# EAGLE library part SMD-FOLIENSTECKVERBINDER-30POL (library Foliensteckverbinder - SMD 30POL)
Name des Bauteiles: -->SMD-Foliensteckverbinder-30POL Daten:30POL, RM0,5, SMD Artikelnummer:#keine feste Artikelnummer vorhanden / Atikel nicht lagermäßig vorhanden! Datenblatt:www.alldatasheet.com __________________________________________ generated by Eagle Description Tool am : 28.11.2013 08:59:44 erstellt von: fert
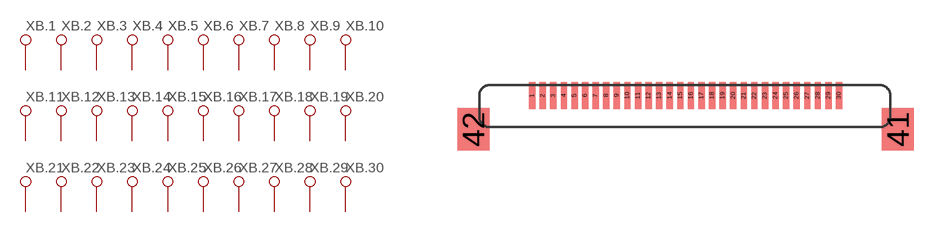
[diagram p0: symbol with the pads of SMD-FOLIENVERBINDER30POL; footprint SMD-FOLIENVERBINDER30POL]

Designator prefix XB; gates .1=1 .2=1 .3=1 .4=1 .5=1 .6=1 .7=1 .8=1 .9=1 .10=1 .11=1 .12=1 .13=1 .14=1 .15=1 .16=1 .17=1 .18=1 .19=1 .20=1 .21=1 .22=1 .23=1 .24=1 .25=1 .26=1 .27=1 .28=1 .29=1 .30=1

## SMD-FOLIENSTECKVERBINDER-30POLTHT  [SMD-FOLIENVERBINDER30POL]
1  .1:.1
2  .2:.1
3  .3:.1
4  .4:.1
5  .5:.1
6  .6:.1
7  .7:.1
8  .8:.1
9  .9:.1
10  .10:.1
11  .11:.1
12  .12:.1
13  .13:.1
14  .14:.1
15  .15:.1
16  .16:.1
17  .17:.1
18  .18:.1
19  .19:.1
20  .20:.1
21  .21:.1
22  .22:.1
23  .23:.1
24  .24:.1
25  .25:.1
26  .26:.1
27  .27:.1
28  .28:.1
29  .29:.1
30  .30:.1

## Footprint SMD-FOLIENVERBINDER30POL (pad centres in mm)
smd 0.3 x 1.27: 1 0,0; 2 0.5,0; 3 1,0; 4 1.5,0; 5 2,0; 6 2.5,0; 7 3,0; 8 3.5,0; 9 4,0; 10 4.5,0; 11 5,0; 12 5.5,0; 13 6,0; 14 6.5,0; 15 7,0; 16 7.5,0; 17 8,0; 18 8.5,0; 19 9,0; 20 9.5,0; 21 10,0; 22 10.5,0; 23 11,0; 24 11.5,0; 25 12,0; 26 12.5,0; 27 13,0; 28 13.5,0; 29 14,0; 30 14.5,0
smd 1.5 x 2: 41 17.28,-1.593; 42 -2.779,-1.593